# Altium integrated library WE-SL1_rev15a (1).intlib: 8 symbols
Pins are listed as number, name and electrical type; pins without a type are passive.

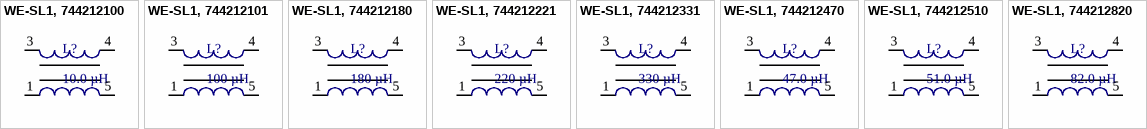
[diagram p0: symbols WE-SL1, 744212100 to WE-SL1, 744212820]

## WE-SL1, 744212100
designator L?, comment 10.0 µH
SMD Common Mode Line Filter WE-SL1, L=10.0 µH; partNo: 744212100; Manufacturer: Würth Elektronik eiSos GmbH; Inductance: 10.0 µH; ComponentLink1Description: Manufacturer; ComponentLink1URL: http://www.we-online.de; Created by: Christin Zierenner; Created Date: November 2009; ComponentLink2Description: Datasheet; ComponentLink2URL: http://www.we-online.de/katalog/media/pdf/744212100.pdf
footprint WE-SL1 (SMD Inductor, 4-Leads, Body 3,8x6,5mm)
pins: 1, 3, 4, 5

## WE-SL1, 744212101
designator L?, comment 100 µH
SMD Common Mode Line Filter WE-SL1, L=100 µH; partNo: 744212101; Manufacturer: Würth Elektronik eiSos GmbH; Inductance: 100 µH; ComponentLink1Description: Manufacturer; ComponentLink1URL: http://www.we-online.de; Created by: Christin Zierenner; Created Date: November 2009; ComponentLink2Description: Datasheet; ComponentLink2URL: http://www.we-online.de/katalog/media/pdf/744212101.pdf
footprint WE-SL1 (SMD Inductor, 4-Leads, Body 3,8x6,5mm)
pins: 1, 3, 4, 5

## WE-SL1, 744212180
designator L?, comment 180 µH
SMD Common Mode Line Filter WE-SL1, L=180 µH; partNo: 744212180; Manufacturer: Würth Elektronik eiSos GmbH; Inductance: 180 µH; ComponentLink1Description: Manufacturer; ComponentLink1URL: http://www.we-online.de; Created by: Christin Zierenner; Created Date: November 2009; ComponentLink2Description: Datasheet; ComponentLink2URL: http://www.we-online.de/katalog/media/pdf/744212180.pdf
footprint WE-SL1 (SMD Inductor, 4-Leads, Body 3,8x6,5mm)
pins: 1, 3, 4, 5

## WE-SL1, 744212221
designator L?, comment 220 µH
SMD Common Mode Line Filter WE-SL1, L=220 µH; partNo: 744212221; Manufacturer: Würth Elektronik eiSos GmbH; Inductance: 220 µH; ComponentLink1Description: Manufacturer; ComponentLink1URL: http://www.we-online.de; Created by: Christin Zierenner; Created Date: November 2009; ComponentLink2Description: Datasheet; ComponentLink2URL: http://www.we-online.de/katalog/media/pdf/744212221.pdf
footprint WE-SL1 (SMD Inductor, 4-Leads, Body 3,8x6,5mm)
pins: 1, 3, 4, 5

## WE-SL1, 744212331
designator L?, comment 330 µH
SMD Common Mode Line Filter WE-SL1, L=330 µH; partNo: 744212331; Manufacturer: Würth Elektronik eiSos GmbH; Inductance: 330 µH; ComponentLink1Description: Manufacturer; ComponentLink1URL: http://www.we-online.de; Created by: Christin Zierenner; Created Date: November 2009; ComponentLink2Description: Datasheet; ComponentLink2URL: http://www.we-online.de/katalog/media/pdf/744212331.pdf
footprint WE-SL1 (SMD Inductor, 4-Leads, Body 3,8x6,5mm)
pins: 1, 3, 4, 5

## WE-SL1, 744212470
designator L?, comment 47.0 µH
SMD Common Mode Line Filter WE-SL1, L=47.0 µH; partNo: 744212470; Manufacturer: Würth Elektronik eiSos GmbH; Inductance: 47.0 µH; ComponentLink1Description: Manufacturer; ComponentLink1URL: http://www.we-online.de; Created by: Christin Zierenner; Created Date: November 2009; ComponentLink2Description: Datasheet; ComponentLink2URL: http://www.we-online.de/katalog/media/pdf/744212470.pdf
footprint WE-SL1 (SMD Inductor, 4-Leads, Body 3,8x6,5mm)
pins: 1, 3, 4, 5

## WE-SL1, 744212510
designator L?, comment 51.0 µH
SMD Common Mode Line Filter WE-SL1, L=51.0 µH; partNo: 744212510; Manufacturer: Würth Elektronik eiSos GmbH; Inductance: 51.0 µH; ComponentLink1Description: Manufacturer; ComponentLink1URL: http://www.we-online.de; Created by: Christin Zierenner; Created Date: November 2009; ComponentLink2Description: Datasheet; ComponentLink2URL: http://www.we-online.de/katalog/media/pdf/744212510.pdf
footprint WE-SL1 (SMD Inductor, 4-Leads, Body 3,8x6,5mm)
pins: 1, 3, 4, 5

## WE-SL1, 744212820
designator L?, comment 82.0 µH
SMD Common Mode Line Filter WE-SL1, L=82.0 µH; partNo: 744212820; Manufacturer: Würth Elektronik eiSos GmbH; Inductance: 82.0 µH; ComponentLink1Description: Manufacturer; ComponentLink1URL: http://www.we-online.de; Created by: Christin Zierenner; Created Date: November 2009; ComponentLink2Description: Datasheet; ComponentLink2URL: http://www.we-online.de/katalog/media/pdf/744212820.pdf
footprint WE-SL1 (SMD Inductor, 4-Leads, Body 3,8x6,5mm)
pins: 1, 3, 4, 5